# EAGLE library part MAX-3370 (library IC)
MAXIM 1uA, 2Mbps, Low-Voltage level translator, Bi-level buffer in SC70 package
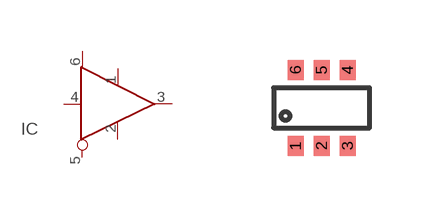
[diagram p32: symbol with the pads of SC70-6L; footprint SC70-6L]

Designator prefix IC

## MAX-3370  [SC70-6L]
1  VL  pwr
2  GND  pwr
3  IO-VL
4  IO-VCC
5  SHND  in
6  VCC  pwr

## Footprint SC70-6L (pad centres in mm)
6-Lead SC70, EIAJ SC88, 1.25mm Wide
smd 0.4 x 0.5: 1 -0.65,-0.95; 2 0,-0.95; 3 0.65,-0.95; 4 0.65,0.95; 5 0,0.953; 6 -0.65,0.95